# Altium schematic symbol library КОНДЕНСАТОРЫ.SchLib: 20 symbols
Pins are listed as number, name and electrical type; pins without a type are passive.

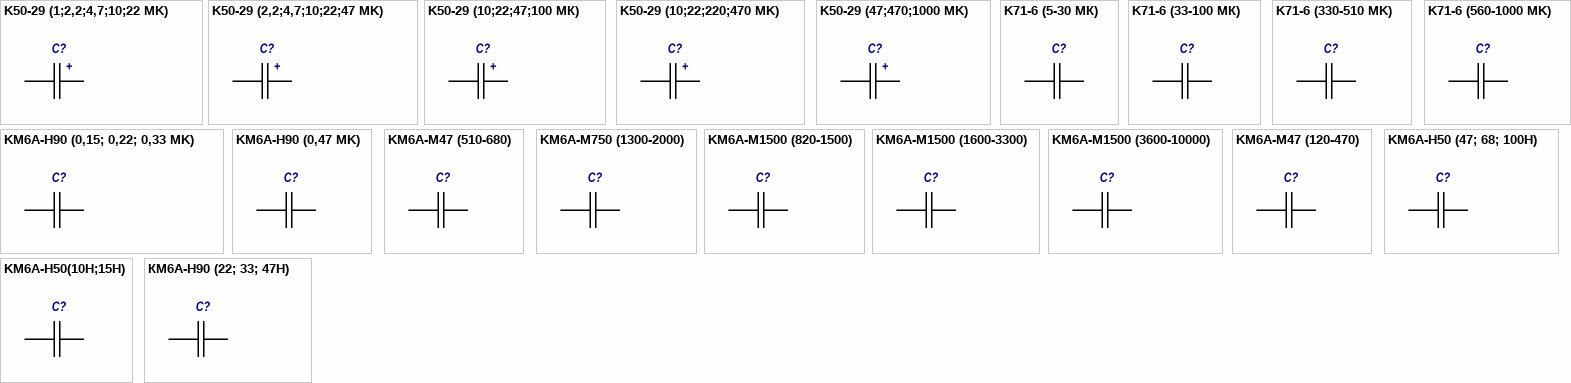
[diagram p0: symbols K50-29 (1;2,2;4,7;10;22 MK) to КМ6А-Н90 (22; 33; 47H)]

## K50-29 (1;2,2;4,7;10;22 MK)
designator C?  (value not drawn)
Value: {Value}
footprint К50-29 (17Х6)
pins: 1, 2
text: +

## K50-29 (2,2;4,7;10;22;47 MK)
designator C?  (value not drawn)
Value: {Value}
footprint К50-29 (22Х6)
pins: 1, 2
text: +

## K50-29 (10;22;47;100 МК)
designator C?  (value not drawn)
Value: {Value}
footprint К50-29 (27Х6)
pins: 1, 2
text: +

## K50-29 (10;22;220;470 MK)
designator C?  (value not drawn)
Value: {Value}
footprint К50-29 (27Х8,5)
pins: 1, 2
text: +

## K50-29 (47;470;1000 MK)
designator C?  (value not drawn)
Value: {Value}
footprint К50-29 (37Х8,5)
pins: 1, 2
text: +

## K71-6 (5-30 МК)
designator C?  (value not drawn)
Value: {Value}
footprint K71-6 (10X4)
pins: 1, 2

## K71-6 (33-100 МК)
designator C?  (value not drawn)
Value: {Value}
footprint K71-6 (10X5)
pins: 1, 2

## K71-6 (330-510 MK)
designator C?  (value not drawn)
Value: {Value}
footprint K71-6 (14X5)
pins: 1, 2

## K71-6 (560-1000 MK)
designator C?  (value not drawn)
Value: {Value}
footprint K71-6 (14X6)
pins: 1, 2

## KM6A-H90 (0,15; 0,22; 0,33 MK)
designator C?  (value not drawn)
Value: {Value}
footprint KМ6А(9,5 MM)
pins: 1, 2

## KM6A-H90 (0,47 MK)
designator C?  (value not drawn)
Value: {Value}
footprint KМ6А (12 MM)
pins: 1, 2

## KM6A-M47 (510-680)
designator C?  (value not drawn)
Value: {Value}
footprint KМ6А (7,5 MM)
pins: 1, 2

## KM6A-M750 (1300-2000)
designator C?  (value not drawn)
Value: {Value}
footprint KМ6А (7,5 MM)
pins: 1, 2

## KM6A-M1500 (820-1500)
designator C?  (value not drawn)
Value: {Value}
footprint KМ6А(6,5 MM)
pins: 1, 2

## KM6A-M1500 (1600-3300)
designator C?  (value not drawn)
Value: {Value}
footprint KМ6А (7,5 MM)
pins: 1, 2

## KМ6А-M1500 (3600-10000)
designator C?  (value not drawn)
Value: {Value}
footprint KМ6А(9,5 MM)
pins: 1, 2

## KМ6А-М47 (120-470)
designator C?  (value not drawn)
Value: {Value}
footprint KМ6А(6,5 MM)
pins: 1, 2

## KМ6А-Н50 (47; 68; 100H)
designator C?  (value not drawn)
Value: {Value}
footprint KМ6А(9,5 MM)
pins: 1, 2

## KМ6А-Н50(10H;15Н)
designator C?  (value not drawn)
Value: {Value}
footprint KМ6А(6,5 MM)
pins: 1, 2

## КМ6А-Н90 (22; 33; 47H)
designator C?  (value not drawn)
Value: {Value}
footprint KМ6А(6,5 MM)
pins: 1, 2